# EAGLE library part TC2030-MCP-NL (library TC2030-MCP-NL)
TC2030-MCP-NL PCB Footprint (no legs) Source: Datasheet <http://ww1.microchip.com/downloads/en/DeviceDoc/TC2030-MCP-NL_PCB_Footprint_RevD.pdf>
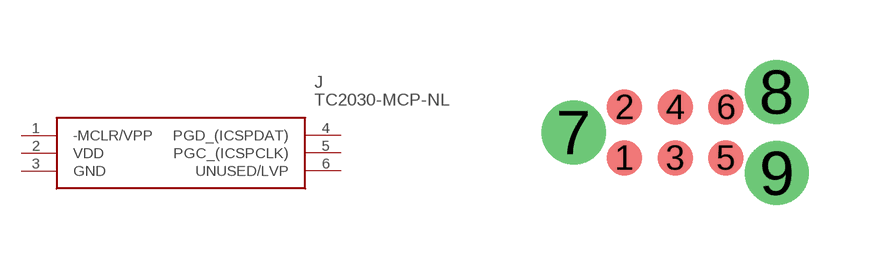
[diagram p0: symbol with the pads of TC2030-MCP-NL; footprint TC2030-MCP-NL]

Designator prefix J

## TC2030-MCP-NL (Arrow_Part_Number: TC2030-MCP-NL; Arrow_Price-Stock: https://www.arrow.com/en/products/tc2030-mcp-nl/microchip-technology?region=nac; Description: TC2030-MCP-NL PCB Footprint (no legs); Height: mm; Manufacturer_Name: Microchip; Manufacturer_Part_Number: TC2030-MCP-NL; Mouser_Part_Number: 579-TC2030-MCP-NL; Mouser_Price-Stock: https://www.mouser.co.uk/ProductDetail/Microchip-Technology-Atmel/TC2030-MCP-NL?qs=vpV3rcoeaPNaPItFBtR60A%3D%3D)  [TC2030-MCP-NL]
1  -MCLR/VPP
2  VDD
3  GND
4  PGD_(ICSPDAT)
5  PGC_(ICSPCLK)
6  UNUSED/LVP

## Footprint TC2030-MCP-NL (pad centres in mm)
TC2030-MCP-NL
smd 0.889 x 0.889: 1 -1.27,-0.635; 2 -1.27,0.635; 3 0,-0.635; 4 0,0.635; 5 1.27,-0.635; 6 1.27,0.635
drill 1.067 pad 1.55: 7 -2.54,0; 8 2.54,1.016; 9 2.54,-1.016